# EAGLE library part AGNUS_8372AB (library Amiga)
8372AB AGNUS (318069-03x) for A3000(T)
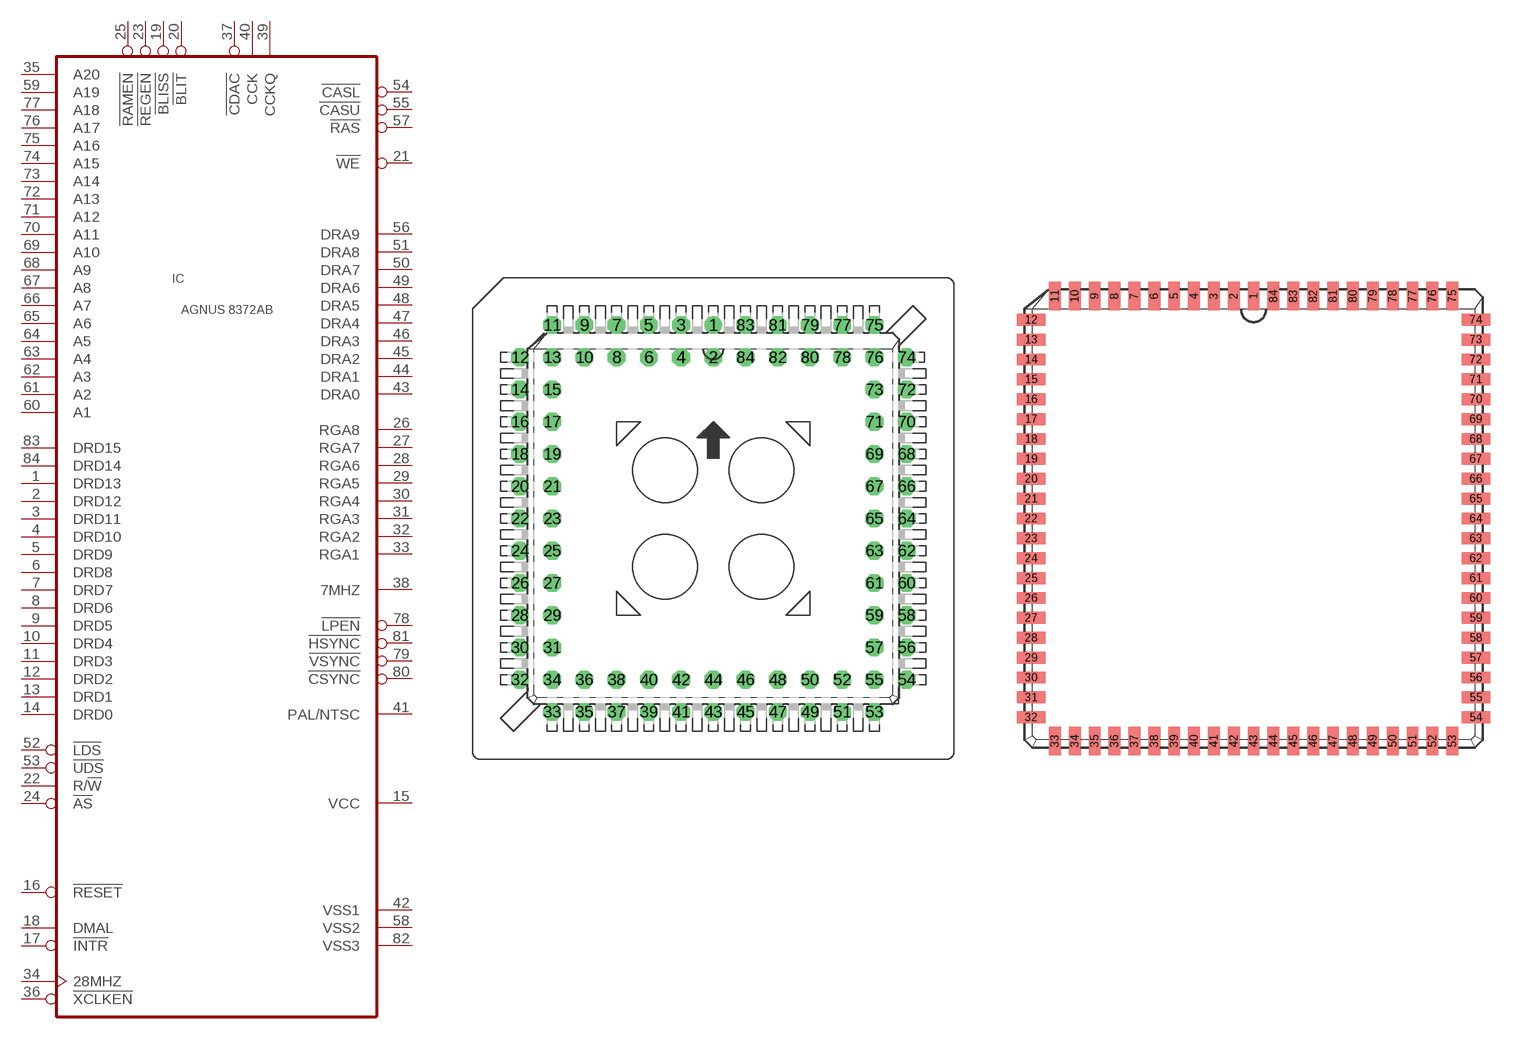
[diagram p2: symbol with the pads of PLCC84_T; footprints PLCC84_T, PLCC84_S]

Designator prefix IC

## AGNUS_8372AB_THT  [PLCC84_T]
1  DRD13
2  DRD12
3  DRD11
4  DRD10
5  DRD9
6  DRD8
7  DRD7
8  DRD6
9  DRD5
10  DRD4
11  DRD3
12  DRD2
13  DRD1
14  DRD0
15  VCC  pwr
16  !RESET  in
17  !INTR  out
18  DMAL  in
19  !BLISS  in
20  !BLIT  out
21  !WE  out
22  R/!W!  in
23  !REGEN  in
24  !AS  in
25  !RAMEN  in
26  RGA8
27  RGA7
28  RGA6
29  RGA5
30  RGA4
31  RGA3
32  RGA2
33  RGA1
34  28MHZ  in
35  A20  in
36  !XCLKEN  in
37  !CDAC  out
38  7MHZ  out
39  CCKQ  out
40  CCK  out
41  PAL/NTSC  in
42  VSS1  pwr
43  DRA0  out
44  DRA1  out
45  DRA2  out
46  DRA3  out
47  DRA4  out
48  DRA5  out
49  DRA6  out
50  DRA7  out
51  DRA8  out
52  !LDS  in
53  !UDS  in
54  !CASL  out
55  !CASU  out
56  DRA9  out
57  !RAS  out
58  VSS2  pwr
59  A19  in
60  A1  in
61  A2  in
62  A3  in
63  A4  in
64  A5  in
65  A6  in
66  A7  in
67  A8  in
68  A9  in
69  A10  in
70  A11  in
71  A12  in
72  A13  in
73  A14  in
74  A15  in
75  A16  in
76  A17  in
77  A18  in
78  !LPEN  in
79  !VSYNC  out
80  !CSYNC  out
81  !HSYNC  out
82  VSS3  pwr
83  DRD15
84  DRD14

## AGNUS_8372AB_SMD  [PLCC84_S]
Pads as for PLCC84_T

## AGNUS_8372AB_THT_SNAP_OVER  [PLCC84_T_R]
Pads as for PLCC84_T

## AGNUS_8372AB_SMD_SNAP_OVER  [PLCC84_S_R]
Pads as for PLCC84_T

## Footprint PLCC84_T (pad centres in mm)
PLASTIC LEADED CHIP CARRIER square
drill 0.7 pad 1.4: 1 0,15.24
drill 0.7 pad 1.4 octagon: 2 0,12.7; 3 -2.54,15.24; 4 -2.54,12.7; 5 -5.08,15.24; 6 -5.08,12.7; 7 -7.62,15.24; 8 -7.62,12.7; 9 -10.16,15.24; 10 -10.16,12.7; 11 -12.7,15.24; 12 -15.24,12.7; 13 -12.7,12.7; 14 -15.24,10.16; 15 -12.7,10.16; 16 -15.24,7.62; 17 -12.7,7.62; 18 -15.24,5.08; 19 -12.7,5.08; 20 -15.24,2.54; 21 -12.7,2.54; 22 -15.24,0; 23 -12.7,0; 24 -15.24,-2.54; 25 -12.7,-2.54; 26 -15.24,-5.08; 27 -12.7,-5.08; 28 -15.24,-7.62; 29 -12.7,-7.62; 30 -15.24,-10.16; 31 -12.7,-10.16; 32 -15.24,-12.7; 33 -12.7,-15.24; 34 -12.7,-12.7; 35 -10.16,-15.24; 36 -10.16,-12.7; 37 -7.62,-15.24; 38 -7.62,-12.7; 39 -5.08,-15.24; 40 -5.08,-12.7; 41 -2.54,-15.24; 42 -2.54,-12.7; 43 0,-15.24; 44 0,-12.7; 45 2.54,-15.24; 46 2.54,-12.7; 47 5.08,-15.24; 48 5.08,-12.7; 49 7.62,-15.24; 50 7.62,-12.7; 51 10.16,-15.24; 52 10.16,-12.7; 53 12.7,-15.24; 54 15.24,-12.7; 55 12.7,-12.7; 56 15.24,-10.16; 57 12.7,-10.16; 58 15.24,-7.62; 59 12.7,-7.62; 60 15.24,-5.08; 61 12.7,-5.08; 62 15.24,-2.54; 63 12.7,-2.54; 64 15.24,0; 65 12.7,0; 66 15.24,2.54; 67 12.7,2.54; 68 15.24,5.08; 69 12.7,5.08; 70 15.24,7.62; 71 12.7,7.62; 72 15.24,10.16; 73 12.7,10.16; 74 15.24,12.7; 75 12.7,15.24; 76 12.7,12.7; 77 10.16,15.24; 78 10.16,12.7; 79 7.62,15.24; 80 7.62,12.7; 81 5.08,15.24; 82 5.08,12.7; 83 2.54,15.24; 84 2.54,12.7

## Footprint PLCC84_S (pad centres in mm)
PLASTIC LEADED CHIP CARRIER square
smd 0.76 x 1.8: 1 0,14.21; 2 -1.27,14.21; 3 -2.54,14.21; 4 -3.81,14.21; 5 -5.08,14.21; 6 -6.35,14.21; 7 -7.62,14.21; 8 -8.89,14.21; 9 -10.16,14.21; 10 -11.43,14.21; 11 -12.7,14.21; 33 -12.7,-14.21; 34 -11.43,-14.21; 35 -10.16,-14.21; 36 -8.89,-14.21; 37 -7.62,-14.21; 38 -6.35,-14.21; 39 -5.08,-14.21; 40 -3.81,-14.21; 41 -2.54,-14.21; 42 -1.27,-14.21; 43 0,-14.21; 44 1.27,-14.21; 45 2.54,-14.21; 46 3.81,-14.21; 47 5.08,-14.21; 48 6.35,-14.21; 49 7.62,-14.21; 50 8.89,-14.21; 51 10.16,-14.21; 52 11.43,-14.21; 53 12.7,-14.21; 75 12.7,14.21; 76 11.43,14.21; 77 10.16,14.21; 78 8.89,14.21; 79 7.62,14.21; 80 6.35,14.21; 81 5.08,14.21; 82 3.81,14.21; 83 2.54,14.21; 84 1.27,14.21
smd 1.8 x 0.76: 12 -14.21,12.7; 13 -14.21,11.43; 14 -14.21,10.16; 15 -14.21,8.89; 16 -14.21,7.62; 17 -14.21,6.35; 18 -14.21,5.08; 19 -14.21,3.81; 20 -14.21,2.54; 21 -14.21,1.27; 22 -14.21,0; 23 -14.21,-1.27; 24 -14.21,-2.54; 25 -14.21,-3.81; 26 -14.21,-5.08; 27 -14.21,-6.35; 28 -14.21,-7.62; 29 -14.21,-8.89; 30 -14.21,-10.16; 31 -14.21,-11.43; 32 -14.21,-12.7; 54 14.21,-12.7; 55 14.21,-11.43; 56 14.21,-10.16; 57 14.21,-8.89; 58 14.21,-7.62; 59 14.21,-6.35; 60 14.21,-5.08; 61 14.21,-3.81; 62 14.21,-2.54; 63 14.21,-1.27; 64 14.21,0; 65 14.21,1.27; 66 14.21,2.54; 67 14.21,3.81; 68 14.21,5.08; 69 14.21,6.35; 70 14.21,7.62; 71 14.21,8.89; 72 14.21,10.16; 73 14.21,11.43; 74 14.21,12.7

## Footprint PLCC84_T_R (pad centres in mm)
MIRRORED PLCC SOCKET For piggy-back usage, mounted on solder side Filled arrow shows socket pin1 indicator, hollow arrow point to actual chip pin1
drill 0.813 octagon: 1 0,15.24; 2 -2.54,12.7; 3 -2.54,15.24; 4 -5.08,12.7; 5 -5.08,15.24; 6 -7.62,12.7; 7 -7.62,15.24; 8 -10.16,12.7; 9 -10.16,15.24; 10 -12.7,12.7; 11 -12.7,15.24; 12 -15.24,12.7; 13 -12.7,10.16; 14 -15.24,10.16; 15 -12.7,7.62; 16 -15.24,7.62; 17 -12.7,5.08; 18 -15.24,5.08; 19 -12.7,2.54; 20 -15.24,2.54; 21 -12.7,0; 23 -12.7,-2.54; 24 -15.24,-2.54; 25 -12.7,-5.08; 26 -15.24,-5.08; 27 -12.7,-7.62; 28 -15.24,-7.62; 29 -12.7,-10.16; 30 -15.24,-10.16; 31 -12.7,-12.7; 32 -15.24,-12.7; 33 -12.7,-15.24; 34 -10.16,-12.7; 35 -10.16,-15.24; 36 -7.62,-12.7; 37 -7.62,-15.24; 38 -5.08,-12.7; 39 -5.08,-15.24; 40 -2.54,-12.7; 41 -2.54,-15.24; 42 0,-12.7; 43 0,-15.24; 44 2.54,-12.7; 45 2.54,-15.24; 46 5.08,-12.7; 47 5.08,-15.24; 48 7.62,-12.7; 49 7.62,-15.24; 50 10.16,-12.7; 51 10.16,-15.24; 52 12.7,-12.7; 53 12.7,-15.24; 54 15.24,-12.7; 55 12.7,-10.16; 56 15.24,-10.16; 57 12.7,-7.62; 58 15.24,-7.62; 59 12.7,-5.08; 60 15.24,-5.08; 61 12.7,-2.54; 62 15.24,-2.54; 63 12.7,0; 64 15.24,0; 65 12.7,2.54; 66 15.24,2.54; 67 12.7,5.08; 68 15.24,5.08; 69 12.7,7.62; 70 15.24,7.62; 71 12.7,10.16; 72 15.24,10.16; 73 12.7,12.7; 74 15.24,12.7; 75 12.7,15.24; 76 10.16,12.7; 77 10.16,15.24; 78 7.62,12.7; 79 7.62,15.24; 80 5.08,12.7; 81 5.08,15.24; 82 2.54,12.7; 83 2.54,15.24; 84 0,12.7
drill 0.813: 22 -15.24,0

## Footprint PLCC84_S_R (pad centres in mm)
PLASTIC LEADED CHIP CARRIER SMD socket to be mounted from the solder side for piggy-back onto existing motherboard chip
smd 0.6 x 2.2 bottom: 1 0,14.5; 2 -1.27,14.5; 3 -2.54,14.5; 4 -3.81,14.5; 5 -5.08,14.5; 6 -6.35,14.5; 7 -7.62,14.5; 8 -8.89,14.5; 9 -10.16,14.5; 10 -11.43,14.5; 11 -12.7,14.5; 33 -12.7,-14.5; 34 -11.43,-14.5; 35 -10.16,-14.5; 36 -8.89,-14.5; 37 -7.62,-14.5; 38 -6.35,-14.5; 39 -5.08,-14.5; 40 -3.81,-14.5; 41 -2.54,-14.5; 42 -1.27,-14.5; 43 0,-14.5; 44 1.27,-14.5; 45 2.54,-14.5; 46 3.81,-14.5; 47 5.08,-14.5; 48 6.35,-14.5; 49 7.62,-14.5; 50 8.89,-14.5; 51 10.16,-14.5; 52 11.43,-14.5; 53 12.7,-14.5; 75 12.7,14.5; 76 11.43,14.5; 77 10.16,14.5; 78 8.89,14.5; 79 7.62,14.5; 80 6.35,14.5; 81 5.08,14.5; 82 3.81,14.5; 83 2.54,14.5; 84 1.27,14.5
smd 2.2 x 0.6 bottom: 12 -14.5,12.7; 13 -14.5,11.43; 14 -14.5,10.16; 15 -14.5,8.89; 16 -14.5,7.62; 17 -14.5,6.35; 18 -14.5,5.08; 19 -14.5,3.81; 20 -14.5,2.54; 21 -14.5,1.27; 22 -14.5,0; 23 -14.5,-1.27; 24 -14.5,-2.54; 25 -14.5,-3.81; 26 -14.5,-5.08; 27 -14.5,-6.35; 28 -14.5,-7.62; 29 -14.5,-8.89; 30 -14.5,-10.16; 31 -14.5,-11.43; 32 -14.5,-12.7; 54 14.5,-12.7; 55 14.5,-11.43; 56 14.5,-10.16; 57 14.5,-8.89; 58 14.5,-7.62; 59 14.5,-6.35; 60 14.5,-5.08; 61 14.5,-3.81; 62 14.5,-2.54; 63 14.5,-1.27; 64 14.5,0; 65 14.5,1.27; 66 14.5,2.54; 67 14.5,3.81; 68 14.5,5.08; 69 14.5,6.35; 70 14.5,7.62; 71 14.5,8.89; 72 14.5,10.16; 73 14.5,11.43; 74 14.5,12.7